# Altium schematic symbol library PCA9537DPZ.SchLib: 2 symbols
Pins are listed as number, name and electrical type; pins without a type are passive.

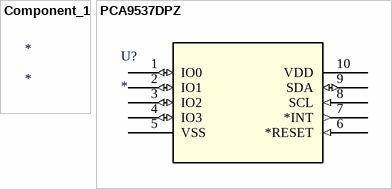
[diagram p0: symbols Component_1 to PCA9537DPZ]

## Component_1
designator *

## PCA9537DPZ
designator U?
No Description Available; Mfr_Name: NXP; RefDes: RefDes; Type: Type
footprint TSSOP10_SOT552-1_NXP
pins: 1 IO0 (io), 2 IO1 (io), 3 IO2 (io), 4 IO3 (io), 5 VSS (power), 6 *RESET (in), 7 *INT (out), 8 SCL (in), 9 SDA (io), 10 VDD (power)